# EAGLE library part LM3S102-IRN20 (library luminary-micro)
LM3S102 microcontroller 20-MHz operation 8 KB single-cycle flash 2 KB single-cycle SRAM
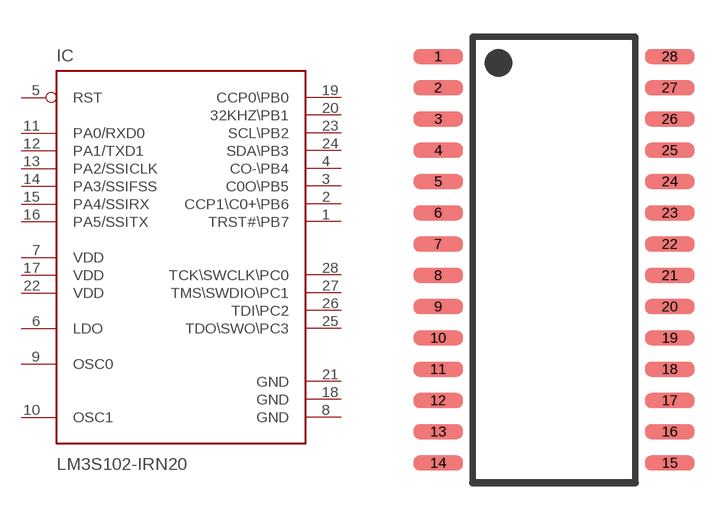
[diagram p3: symbol with the pads of SOIC28; footprint SOIC28]

Designator prefix IC

## LM3S102-IRN20  [SOIC28]
1  TRST#\PB7
2  CCP1\C0+\PB6
3  C0O\PB5
4  CO-\PB4
5  RST  in
6  LDO  sup
7  VDD  pwr
8  GND  pwr
9  OSC0  in
10  OSC1  out
11  PA0/RXD0
12  PA1/TXD1
13  PA2/SSICLK
14  PA3/SSIFSS
15  PA4/SSIRX
16  PA5/SSITX
17  VDD  pwr
18  GND  pwr
19  CCP0\PB0
20  32KHZ\PB1
21  GND  pwr
22  VDD  pwr
23  SCL\PB2
24  SDA\PB3
25  TDO\SWO\PC3
26  TDI\PC2
27  TMS\SWDIO\PC1
28  TCK\SWCLK\PC0

## Footprint SOIC28 (pad centres in mm)
28-Pin SOIC Package IPC7351 SOIC127P1032X265-28N
smd 2 x 0.6: 1 -4.7,8.255; 2 -4.7,6.985; 3 -4.7,5.715; 4 -4.7,4.445; 5 -4.7,3.175; 6 -4.7,1.905; 7 -4.7,0.635; 8 -4.7,-0.635; 9 -4.7,-1.905; 10 -4.7,-3.175; 11 -4.7,-4.445; 12 -4.7,-5.715; 13 -4.7,-6.985; 14 -4.7,-8.255; 15 4.7,-8.255; 16 4.7,-6.985; 17 4.7,-5.715; 18 4.7,-4.445; 19 4.7,-3.175; 20 4.7,-1.905; 21 4.7,-0.635; 22 4.7,0.635; 23 4.7,1.905; 24 4.7,3.175; 25 4.7,4.445; 26 4.7,5.715; 27 4.7,6.985; 28 4.7,8.255